# Altium schematic symbol library R05C1TF05S-R.SchLib: 1 symbol
Pins are listed as number, name and electrical type; pins without a type are passive.

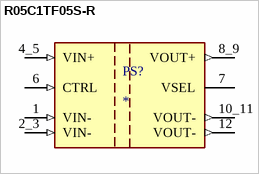
[diagram p0: symbol R05C1TF05S-R]

## R05C1TF05S-R
designator PS?
MF: {'manufacturer': u'Recom Power'}; MP: R05C1TF05S-R; Package: None; Price: None; Value: *; Availability: Unavailable
footprint CONV_R05C1TF05S-R
pins: 1 VIN- (in), 2_3 VIN- (in), 4_5 VIN+ (in), 6 CTRL (in), 7 VSEL, 8_9 VOUT+ (out), 10_11 VOUT- (out), 12 VOUT- (out)